# Altium integrated library Micron Memory Parallel NOR Flash.IntLib: 720 symbols (part 28 of 216)
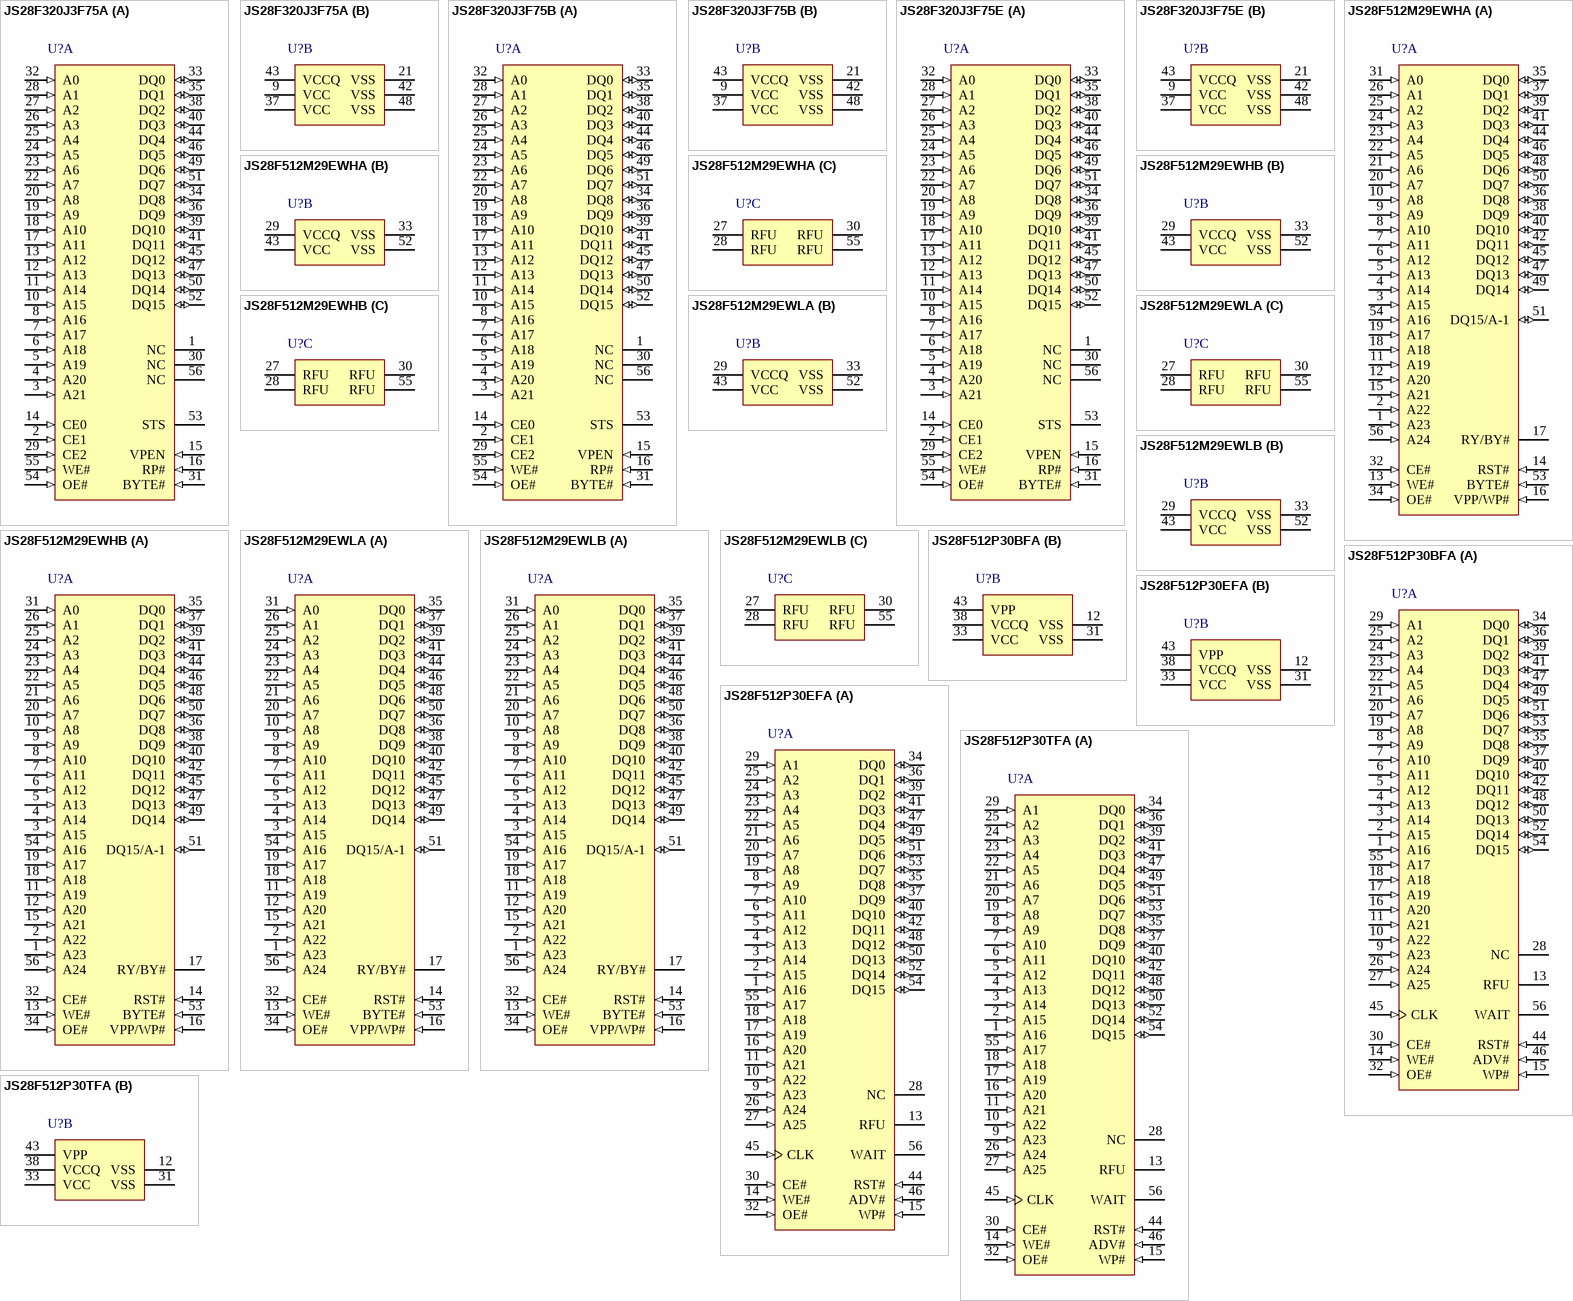
[diagram p86: symbols JS28F320J3F75A to JS28F512P30TFA]

## JS28F320J3F75A
designator U?
32 Mb (x8/x16) Parallel NOR Flash Memory, 75 ns, 2.7 to 3.6 V, 56-pin TSOP (JS), Tray; Part Family: J3; Manufacturer: Micron; PartNumber: JS28F320J3F75A; Density: 32Mb; Op Temp: -40C to +85C; Speed: 75ns; Voltage: 2.7V-3.6V; DatasheetVersion: Rev. 03; PackageVersion: Rev. 12; PackageReference: MICT-JS-56; PackageDescription: 56-Pin TSOP, 18.4 X 14 mm, Pitch 0.5 mm; RoHS: Yes; Width: x8/x16; Mounting Technology: Surface Mount; ComponentLink1Description: Manufacturer URL; ComponentLink1URL: http://www.micron.com/; ComponentLink2Description: Datasheet; ComponentLink2URL: http://www.micron.com/~/media/Documents/Products/Data%20Sheet/NOR%20Flash/Parallel/J3/208032_J3_65_SBC_DS.pdf; ComponentLink3Description: Package Specification; ComponentLink3URL: http://www.micron.com/~/media/Documents/Products/Data%20Sheet/NOR%20Flash/Parallel/P33/320003_P33_65nm_MLC_256MDiscrete_512MStack_DS.pdf
footprint MICT-JS-56_N (SOP, 56-Leads, Body 18.6x14.2mm, Pitch 0.5mm, IPC Medium Density)
part A pins: 1 NC "No Connect: Lead is not internally connected; it may be driven or floated.", 2 CE1 (in) "CHIP ENABLE: Activates the 32-, 64-, 128-Mbit devices’ control logic, input buffers, decoders, and sense amplifiers. When the device is de-selected (see Table 17, "Chip Enable Truth Table for 32-, 64-, 128-Mb" on page 30), (See Datasheet)", 3 A21 (in) "Address Input: Inputs for addresses during read and program operations. Addresses are internally latched during a program cycle: 32-Mbit -- A[21:1] 64-Mbit-- A[22:1] 128-Mbit -- A[23:1]", 4 A20 (in) "Address Input: Inputs for addresses during read and program operations. Addresses are internally latched during a program cycle: 32-Mbit -- A[21:1] 64-Mbit-- A[22:1] 128-Mbit -- A[23:1]", 5 A19 (in) "Address Input: Inputs for addresses during read and program operations. Addresses are internally latched during a program cycle: 32-Mbit -- A[21:1] 64-Mbit-- A[22:1] 128-Mbit -- A[23:1]", 6 A18 (in) "Address Input: Inputs for addresses during read and program operations. Addresses are internally latched during a program cycle: 32-Mbit -- A[21:1] 64-Mbit-- A[22:1] 128-Mbit -- A[23:1]", 7 A17 (in) "Address Input: Inputs for addresses during read and program operations. Addresses are internally latched during a program cycle: 32-Mbit -- A[21:1] 64-Mbit-- A[22:1] 128-Mbit -- A[23:1]", 8 A16 (in) "Address Input: Inputs for addresses during read and program operations. Addresses are internally latched during a program cycle: 32-Mbit -- A[21:1] 64-Mbit-- A[22:1] 128-Mbit -- A[23:1]", 10 A15 (in) "Address Input: Inputs for addresses during read and program operations. Addresses are internally latched during a program cycle: 32-Mbit -- A[21:1] 64-Mbit-- A[22:1] 128-Mbit -- A[23:1]", 11 A14 (in) "Address Input: Inputs for addresses during read and program operations. Addresses are internally latched during a program cycle: 32-Mbit -- A[21:1] 64-Mbit-- A[22:1] 128-Mbit -- A[23:1]", 12 A13 (in) "Address Input: Inputs for addresses during read and program operations. Addresses are internally latched during a program cycle: 32-Mbit -- A[21:1] 64-Mbit-- A[22:1] 128-Mbit -- A[23:1]", 13 A12 (in) "Address Input: Inputs for addresses during read and program operations. Addresses are internally latched during a program cycle: 32-Mbit -- A[21:1] 64-Mbit-- A[22:1] 128-Mbit -- A[23:1]", 14 CE0 (in) "CHIP ENABLE: Activates the 32-, 64-, 128-Mbit devices’ control logic, input buffers, decoders, and sense amplifiers. When the device is de-selected (see Table 17, "Chip Enable Truth Table for 32-, 64-, 128-Mb"on page 30), (See Datasheet)", 15 VPEN (in) "ERASE / PROGRAM / BLOCK LOCK ENABLE: For erasing array blocks, programming data, or configuring lock-bits. With VPEN =< VPENLK, memory contents cannot be altered.", 16 RP# (in) "RESET: RP#-low resets internal automation and puts the device in power-down mode. RP#-high enables normal operation. Exit from reset sets the device to read array mode. When driven low, RP# inhibits write operations which (See Datasheet)", 17 A11 (in) "Address Input: Inputs for addresses during read and program operations. Addresses are internally latched during a program cycle: 32-Mbit -- A[21:1] 64-Mbit-- A[22:1] 128-Mbit -- A[23:1]", 18 A10 (in) "Address Input: Inputs for addresses during read and program operations. Addresses are internally latched during a program cycle: 32-Mbit -- A[21:1] 64-Mbit-- A[22:1] 128-Mbit -- A[23:1]", 19 A9 (in) "Address Input: Inputs for addresses during read and program operations. Addresses are internally latched during a program cycle: 32-Mbit -- A[21:1] 64-Mbit-- A[22:1] 128-Mbit -- A[23:1]", 20 A8 (in) "Address Input: Inputs for addresses during read and program operations. Addresses are internally latched during a program cycle: 32-Mbit -- A[21:1] 64-Mbit-- A[22:1] 128-Mbit -- A[23:1]", 22 A7 (in) "Address Input: Inputs for addresses during read and program operations. Addresses are internally latched during a program cycle: 32-Mbit -- A[21:1] 64-Mbit-- A[22:1] 128-Mbit -- A[23:1]", 23 A6 (in) "Address Input: Inputs for addresses during read and program operations. Addresses are internally latched during a program cycle: 32-Mbit -- A[21:1] 64-Mbit-- A[22:1] 128-Mbit -- A[23:1]", 24 A5 (in) "Address Input: Inputs for addresses during read and program operations. Addresses are internally latched during a program cycle: 32-Mbit -- A[21:1] 64-Mbit-- A[22:1] 128-Mbit -- A[23:1]", 25 A4 (in) "Address Input: Inputs for addresses during read and program operations. Addresses are internally latched during a program cycle: 32-Mbit -- A[21:1] 64-Mbit-- A[22:1] 128-Mbit -- A[23:1]", 26 A3 (in) "Address Input: Inputs for addresses during read and program operations. Addresses are internally latched during a program cycle: 32-Mbit -- A[21:1] 64-Mbit-- A[22:1] 128-Mbit -- A[23:1]", 27 A2 (in) "Address Input: Inputs for addresses during read and program operations. Addresses are internally latched during a program cycle: 32-Mbit -- A[21:1] 64-Mbit-- A[22:1] 128-Mbit -- A[23:1]", 28 A1 (in) "Address Input: Inputs for addresses during read and program operations. Addresses are internally latched during a program cycle: 32-Mbit -- A[21:1] 64-Mbit-- A[22:1] 128-Mbit -- A[23:1]", 29 CE2 (in) "CHIP ENABLE: Activates the 32-, 64-, 128-Mbit devices’ control logic, input buffers, decoders, and sense amplifiers. When the device is de-selected (see Table 17, "Chip Enable Truth Table for 32-, 64-, 128-Mb" on page 30), (See Datasheet)", 30 NC "No Connect: Lead is not internally connected; it may be driven or floated.", 31 BYTE# (in) "BYTE ENABLE: BYTE#-low places the device in x8 mode; data is input or output on D[7:0], while D[15:8] is placed in High-Z. Address A0 selects between the high and low byte. BYTE#-high places the device in x16 mode, and turns (See Datasheet)", 32 A0 (in) "BYTE-SELECT ADDRESS: Selects between high and low byte when the device is in x8 mode. This address is latched during a x8 program cycle. Not used in x16 mode (i.e., the A0 input buffer is turned off when BYTE# is high).", 33 DQ0 (io) "LOW-BYTE DATA BUS: Inputs data during buffer writes and programming, and inputs commands during CUI writes. Output array, CFI, identifier, or status data in the appropriate read mode. Data is internally latched during write (See Datasheet)", 34 DQ8 (io) "HIGH-BYTE DATA BUS: Inputs data during x16 buffer writes and programming operations. Outputs array, CFI, or identifier data in the appropriate read mode; not used for Status Register reads. Data is internally latched during (See Datasheet)", 35 DQ1 (io) "LOW-BYTE DATA BUS: Inputs data during buffer writes and programming, and inputs commands during CUI writes. Output array, CFI, identifier, or status data in the appropriate read mode. Data is internally latched during write (See Datasheet)", 36 DQ9 (io) "HIGH-BYTE DATA BUS: Inputs data during x16 buffer writes and programming operations. Outputs array, CFI, or identifier data in the appropriate read mode; not used for Status Register reads. Data is internally latched during (See Datasheet)", 38 DQ2 (io) "LOW-BYTE DATA BUS: Inputs data during buffer writes and programming, and inputs commands during CUI writes. Output array, CFI, identifier, or status data in the appropriate read mode. Data is internally latched during write (See Datasheet)", 39 DQ10 (io) "HIGH-BYTE DATA BUS: Inputs data during x16 buffer writes and programming operations. Outputs array, CFI, or identifier data in the appropriate read mode; not used for Status Register reads. Data is internally latched during (See Datasheet)", 40 DQ3 (io) "LOW-BYTE DATA BUS: Inputs data during buffer writes and programming, and inputs commands during CUI writes. Output array, CFI, identifier, or status data in the appropriate read mode. Data is internally latched during write (See Datasheet)", 41 DQ11 (io) "HIGH-BYTE DATA BUS: Inputs data during x16 buffer writes and programming operations. Outputs array, CFI, or identifier data in the appropriate read mode; not used for Status Register reads. Data is internally latched during (See Datasheet)", 44 DQ4 (io) "LOW-BYTE DATA BUS: INPUT data during buffer writes and programming, and INPUT commands during CUI writes. OUTPUT array, CFI, identifier, or status data in the appropriate read mode. Data is internally latched during write (See Datasheet)", 45 DQ12 (io) "HIGH-BYTE DATA BUS: Inputs data during x16 buffer writes and programming operations. Outputs array, CFI, or identifier data in the appropriate read mode; not used for Status Register reads. Data is internally latched during (See Datasheet)", 46 DQ5 (io) "LOW-BYTE DATA BUS: Inputs data during buffer writes and programming, and inputs commands during CUI writes. Outputs array, CFI, identifier, or status data in the appropriate read mode. Data is internally latched during write (See Datasheet)", 47 DQ13 (io) "HIGH-BYTE DATA BUS: Inputs data during x16 buffer writes and programming operations. Outputs array, CFI, or identifier data in the appropriate read mode; not used for Status Register reads. Data is internally latched during (See Datasheet)", 49 DQ6 (io) "LOW-BYTE DATA BUS: Inputs data during buffer writes and programming, and inputs commands during CUI writes. Outputs array, CFI, identifier, or status data in the appropriate read mode. Data is internally latched during write (See Datasheet)", 50 DQ14 (io) "HIGH-BYTE DATA BUS: Inputs data during x16 buffer writes and programming operations. Outputs array, CFI, or identifier data in the appropriate read mode; not used for Status Register reads. Data is internally latched during (See Datasheet)", 51 DQ7 (io) "LOW-BYTE DATA BUS: Inputs data during buffer writes and programming, and inputs commands during CUI writes. Outputs array, CFI, identifier, or status data in the appropriate read mode. Data is internally latched during write (See Datasheet)", 52 DQ15 (io) "HIGH-BYTE DATA BUS: Inputs data during x16 buffer writes and programming operations. Outputs array, CFI, or identifier data in the appropriate read mode; not used for Status Register reads. Data is internally latched during (See Datasheet)", 53 STS (hiz) "STATUS: Indicates the status of the internal state machine. When configured in level mode (default), it acts as a RY/BY# signal. When configured in one of its pulse modes, it can pulse to indicate program and/or erase (See Datasheet)", 54 OE# (in) "OUTPUT ENABLE: Activates the device’s outputs through the data buffers during a read cycle. OE# is active low.", 55 WE# (in) "WRITE ENABLE: Controls writes to the CUI, the Write Buffer, and array blocks. WE# is active low. Addresses and data are latched on the rising edge of WE#.", 56 NC "No Connect: Lead is not internally connected; it may be driven or floated."
part B pins: 9 VCC (power) "CORE Power Supply: Core (logic) source voltage. Writes to the flash array are inhibited when VCC =< VLko. Caution: Device operation at invalid Vcc voltages should not be attempted.", 21 VSS (power) "GROUND: Ground reference for device logic voltages. Connect to system ground.", 37 VCC (power) "CORE Power Supply: Core (logic) source voltage. Writes to the flash array are inhibited when VCC =< VLko. Caution: Device operation at invalid Vcc voltages should not be attempted.", 42 VSS (power) "GROUND: Ground reference for device logic voltages. Connect to system ground.", 43 VCCQ (power) "I/O Power Supply: Power supply for Input/Output buffers.This ball can be tied directly to VCC.", 48 VSS (power) "GROUND: Ground reference for device logic voltages. Connect to system ground."

## JS28F320J3F75B
designator U?
32 Mb (x8/x16) Parallel NOR Flash Memory, 75 ns, 2.7 to 3.6 V, 56-pin TSOP (JS), Tape & Reel; Part Family: J3; Manufacturer: Micron; PartNumber: JS28F320J3F75B; Density: 32Mb; Op Temp: -40C to +85C; Speed: 75ns; Voltage: 2.7V-3.6V; DatasheetVersion: Rev. 03; PackageVersion: Rev. 12; PackageReference: MICT-JS-56; PackageDescription: 56-Pin TSOP, 18.4 X 14 mm, Pitch 0.5 mm; RoHS: Yes; Width: x8/x16; Mounting Technology: Surface Mount; ComponentLink1Description: Manufacturer URL; ComponentLink1URL: http://www.micron.com/; ComponentLink2Description: Datasheet; ComponentLink2URL: http://www.micron.com/~/media/Documents/Products/Data%20Sheet/NOR%20Flash/Parallel/J3/208032_J3_65_SBC_DS.pdf; ComponentLink3Description: Package Specification; ComponentLink3URL: http://www.micron.com/~/media/Documents/Products/Data%20Sheet/NOR%20Flash/Parallel/P33/320003_P33_65nm_MLC_256MDiscrete_512MStack_DS.pdf
footprint MICT-JS-56_N (SOP, 56-Leads, Body 18.6x14.2mm, Pitch 0.5mm, IPC Medium Density)
part A pins: 1 NC "No Connect: Lead is not internally connected; it may be driven or floated.", 2 CE1 (in) "CHIP ENABLE: Activates the 32-, 64-, 128-Mbit devices’ control logic, input buffers, decoders, and sense amplifiers. When the device is de-selected (see Table 17, "Chip Enable Truth Table for 32-, 64-, 128-Mb" on page 30), (See Datasheet)", 3 A21 (in) "Address Input: Inputs for addresses during read and program operations. Addresses are internally latched during a program cycle: 32-Mbit -- A[21:1] 64-Mbit-- A[22:1] 128-Mbit -- A[23:1]", 4 A20 (in) "Address Input: Inputs for addresses during read and program operations. Addresses are internally latched during a program cycle: 32-Mbit -- A[21:1] 64-Mbit-- A[22:1] 128-Mbit -- A[23:1]", 5 A19 (in) "Address Input: Inputs for addresses during read and program operations. Addresses are internally latched during a program cycle: 32-Mbit -- A[21:1] 64-Mbit-- A[22:1] 128-Mbit -- A[23:1]", 6 A18 (in) "Address Input: Inputs for addresses during read and program operations. Addresses are internally latched during a program cycle: 32-Mbit -- A[21:1] 64-Mbit-- A[22:1] 128-Mbit -- A[23:1]", 7 A17 (in) "Address Input: Inputs for addresses during read and program operations. Addresses are internally latched during a program cycle: 32-Mbit -- A[21:1] 64-Mbit-- A[22:1] 128-Mbit -- A[23:1]", 8 A16 (in) "Address Input: Inputs for addresses during read and program operations. Addresses are internally latched during a program cycle: 32-Mbit -- A[21:1] 64-Mbit-- A[22:1] 128-Mbit -- A[23:1]", 10 A15 (in) "Address Input: Inputs for addresses during read and program operations. Addresses are internally latched during a program cycle: 32-Mbit -- A[21:1] 64-Mbit-- A[22:1] 128-Mbit -- A[23:1]", 11 A14 (in) "Address Input: Inputs for addresses during read and program operations. Addresses are internally latched during a program cycle: 32-Mbit -- A[21:1] 64-Mbit-- A[22:1] 128-Mbit -- A[23:1]", 12 A13 (in) "Address Input: Inputs for addresses during read and program operations. Addresses are internally latched during a program cycle: 32-Mbit -- A[21:1] 64-Mbit-- A[22:1] 128-Mbit -- A[23:1]", 13 A12 (in) "Address Input: Inputs for addresses during read and program operations. Addresses are internally latched during a program cycle: 32-Mbit -- A[21:1] 64-Mbit-- A[22:1] 128-Mbit -- A[23:1]", 14 CE0 (in) "CHIP ENABLE: Activates the 32-, 64-, 128-Mbit devices’ control logic, input buffers, decoders, and sense amplifiers. When the device is de-selected (see Table 17, "Chip Enable Truth Table for 32-, 64-, 128-Mb"on page 30), (See Datasheet)", 15 VPEN (in) "ERASE / PROGRAM / BLOCK LOCK ENABLE: For erasing array blocks, programming data, or configuring lock-bits. With VPEN =< VPENLK, memory contents cannot be altered.", 16 RP# (in) "RESET: RP#-low resets internal automation and puts the device in power-down mode. RP#-high enables normal operation. Exit from reset sets the device to read array mode. When driven low, RP# inhibits write operations which (See Datasheet)", 17 A11 (in) "Address Input: Inputs for addresses during read and program operations. Addresses are internally latched during a program cycle: 32-Mbit -- A[21:1] 64-Mbit-- A[22:1] 128-Mbit -- A[23:1]", 18 A10 (in) "Address Input: Inputs for addresses during read and program operations. Addresses are internally latched during a program cycle: 32-Mbit -- A[21:1] 64-Mbit-- A[22:1] 128-Mbit -- A[23:1]", 19 A9 (in) "Address Input: Inputs for addresses during read and program operations. Addresses are internally latched during a program cycle: 32-Mbit -- A[21:1] 64-Mbit-- A[22:1] 128-Mbit -- A[23:1]", 20 A8 (in) "Address Input: Inputs for addresses during read and program operations. Addresses are internally latched during a program cycle: 32-Mbit -- A[21:1] 64-Mbit-- A[22:1] 128-Mbit -- A[23:1]", 22 A7 (in) "Address Input: Inputs for addresses during read and program operations. Addresses are internally latched during a program cycle: 32-Mbit -- A[21:1] 64-Mbit-- A[22:1] 128-Mbit -- A[23:1]", 23 A6 (in) "Address Input: Inputs for addresses during read and program operations. Addresses are internally latched during a program cycle: 32-Mbit -- A[21:1] 64-Mbit-- A[22:1] 128-Mbit -- A[23:1]", 24 A5 (in) "Address Input: Inputs for addresses during read and program operations. Addresses are internally latched during a program cycle: 32-Mbit -- A[21:1] 64-Mbit-- A[22:1] 128-Mbit -- A[23:1]", 25 A4 (in) "Address Input: Inputs for addresses during read and program operations. Addresses are internally latched during a program cycle: 32-Mbit -- A[21:1] 64-Mbit-- A[22:1] 128-Mbit -- A[23:1]", 26 A3 (in) "Address Input: Inputs for addresses during read and program operations. Addresses are internally latched during a program cycle: 32-Mbit -- A[21:1] 64-Mbit-- A[22:1] 128-Mbit -- A[23:1]", 27 A2 (in) "Address Input: Inputs for addresses during read and program operations. Addresses are internally latched during a program cycle: 32-Mbit -- A[21:1] 64-Mbit-- A[22:1] 128-Mbit -- A[23:1]", 28 A1 (in) "Address Input: Inputs for addresses during read and program operations. Addresses are internally latched during a program cycle: 32-Mbit -- A[21:1] 64-Mbit-- A[22:1] 128-Mbit -- A[23:1]", 29 CE2 (in) "CHIP ENABLE: Activates the 32-, 64-, 128-Mbit devices’ control logic, input buffers, decoders, and sense amplifiers. When the device is de-selected (see Table 17, "Chip Enable Truth Table for 32-, 64-, 128-Mb" on page 30), (See Datasheet)", 30 NC "No Connect: Lead is not internally connected; it may be driven or floated.", 31 BYTE# (in) "BYTE ENABLE: BYTE#-low places the device in x8 mode; data is input or output on D[7:0], while D[15:8] is placed in High-Z. Address A0 selects between the high and low byte. BYTE#-high places the device in x16 mode, and turns (See Datasheet)", 32 A0 (in) "BYTE-SELECT ADDRESS: Selects between high and low byte when the device is in x8 mode. This address is latched during a x8 program cycle. Not used in x16 mode (i.e., the A0 input buffer is turned off when BYTE# is high).", 33 DQ0 (io) "LOW-BYTE DATA BUS: Inputs data during buffer writes and programming, and inputs commands during CUI writes. Output array, CFI, identifier, or status data in the appropriate read mode. Data is internally latched during write (See Datasheet)", 34 DQ8 (io) "HIGH-BYTE DATA BUS: Inputs data during x16 buffer writes and programming operations. Outputs array, CFI, or identifier data in the appropriate read mode; not used for Status Register reads. Data is internally latched during (See Datasheet)", 35 DQ1 (io) "LOW-BYTE DATA BUS: Inputs data during buffer writes and programming, and inputs commands during CUI writes. Output array, CFI, identifier, or status data in the appropriate read mode. Data is internally latched during write (See Datasheet)", 36 DQ9 (io) "HIGH-BYTE DATA BUS: Inputs data during x16 buffer writes and programming operations. Outputs array, CFI, or identifier data in the appropriate read mode; not used for Status Register reads. Data is internally latched during (See Datasheet)", 38 DQ2 (io) "LOW-BYTE DATA BUS: Inputs data during buffer writes and programming, and inputs commands during CUI writes. Output array, CFI, identifier, or status data in the appropriate read mode. Data is internally latched during write (See Datasheet)", 39 DQ10 (io) "HIGH-BYTE DATA BUS: Inputs data during x16 buffer writes and programming operations. Outputs array, CFI, or identifier data in the appropriate read mode; not used for Status Register reads. Data is internally latched during (See Datasheet)", 40 DQ3 (io) "LOW-BYTE DATA BUS: Inputs data during buffer writes and programming, and inputs commands during CUI writes. Output array, CFI, identifier, or status data in the appropriate read mode. Data is internally latched during write (See Datasheet)", 41 DQ11 (io) "HIGH-BYTE DATA BUS: Inputs data during x16 buffer writes and programming operations. Outputs array, CFI, or identifier data in the appropriate read mode; not used for Status Register reads. Data is internally latched during (See Datasheet)", 44 DQ4 (io) "LOW-BYTE DATA BUS: INPUT data during buffer writes and programming, and INPUT commands during CUI writes. OUTPUT array, CFI, identifier, or status data in the appropriate read mode. Data is internally latched during write (See Datasheet)", 45 DQ12 (io) "HIGH-BYTE DATA BUS: Inputs data during x16 buffer writes and programming operations. Outputs array, CFI, or identifier data in the appropriate read mode; not used for Status Register reads. Data is internally latched during (See Datasheet)", 46 DQ5 (io) "LOW-BYTE DATA BUS: Inputs data during buffer writes and programming, and inputs commands during CUI writes. Outputs array, CFI, identifier, or status data in the appropriate read mode. Data is internally latched during write (See Datasheet)", 47 DQ13 (io) "HIGH-BYTE DATA BUS: Inputs data during x16 buffer writes and programming operations. Outputs array, CFI, or identifier data in the appropriate read mode; not used for Status Register reads. Data is internally latched during (See Datasheet)", 49 DQ6 (io) "LOW-BYTE DATA BUS: Inputs data during buffer writes and programming, and inputs commands during CUI writes. Outputs array, CFI, identifier, or status data in the appropriate read mode. Data is internally latched during write (See Datasheet)", 50 DQ14 (io) "HIGH-BYTE DATA BUS: Inputs data during x16 buffer writes and programming operations. Outputs array, CFI, or identifier data in the appropriate read mode; not used for Status Register reads. Data is internally latched during (See Datasheet)", 51 DQ7 (io) "LOW-BYTE DATA BUS: Inputs data during buffer writes and programming, and inputs commands during CUI writes. Outputs array, CFI, identifier, or status data in the appropriate read mode. Data is internally latched during write (See Datasheet)", 52 DQ15 (io) "HIGH-BYTE DATA BUS: Inputs data during x16 buffer writes and programming operations. Outputs array, CFI, or identifier data in the appropriate read mode; not used for Status Register reads. Data is internally latched during (See Datasheet)", 53 STS (hiz) "STATUS: Indicates the status of the internal state machine. When configured in level mode (default), it acts as a RY/BY# signal. When configured in one of its pulse modes, it can pulse to indicate program and/or erase (See Datasheet)", 54 OE# (in) "OUTPUT ENABLE: Activates the device’s outputs through the data buffers during a read cycle. OE# is active low.", 55 WE# (in) "WRITE ENABLE: Controls writes to the CUI, the Write Buffer, and array blocks. WE# is active low. Addresses and data are latched on the rising edge of WE#.", 56 NC "No Connect: Lead is not internally connected; it may be driven or floated."
part B pins: 9 VCC (power) "CORE Power Supply: Core (logic) source voltage. Writes to the flash array are inhibited when VCC =< VLko. Caution: Device operation at invalid Vcc voltages should not be attempted.", 21 VSS (power) "GROUND: Ground reference for device logic voltages. Connect to system ground.", 37 VCC (power) "CORE Power Supply: Core (logic) source voltage. Writes to the flash array are inhibited when VCC =< VLko. Caution: Device operation at invalid Vcc voltages should not be attempted.", 42 VSS (power) "GROUND: Ground reference for device logic voltages. Connect to system ground.", 43 VCCQ (power) "I/O Power Supply: Power supply for Input/Output buffers.This ball can be tied directly to VCC.", 48 VSS (power) "GROUND: Ground reference for device logic voltages. Connect to system ground."

## JS28F320J3F75E
designator U?
32 Mb (x8/x16) Parallel NOR Flash Memory, 75 ns, 2.7 to 3.6 V, 56-pin TSOP (JS), Tray; Part Family: J3; Manufacturer: Micron; PartNumber: JS28F320J3F75E; Density: 32Mb; Op Temp: -40C to +85C; Speed: 75ns; Voltage: 2.7V-3.6V; DatasheetVersion: Rev. 03; PackageVersion: Rev. 12; PackageReference: MICT-JS-56; PackageDescription: 56-Pin TSOP, 18.4 X 14 mm, Pitch 0.5 mm; RoHS: Yes; Width: x8/x16; Mounting Technology: Surface Mount; ComponentLink1Description: Manufacturer URL; ComponentLink1URL: http://www.micron.com/; ComponentLink2Description: Datasheet; ComponentLink2URL: http://www.micron.com/~/media/Documents/Products/Data%20Sheet/NOR%20Flash/Parallel/J3/208032_J3_65_SBC_DS.pdf; ComponentLink3Description: Package Specification; ComponentLink3URL: http://www.micron.com/~/media/Documents/Products/Data%20Sheet/NOR%20Flash/Parallel/P33/320003_P33_65nm_MLC_256MDiscrete_512MStack_DS.pdf
footprint MICT-JS-56_N (SOP, 56-Leads, Body 18.6x14.2mm, Pitch 0.5mm, IPC Medium Density)
part A pins: 1 NC "No Connect: Lead is not internally connected; it may be driven or floated.", 2 CE1 (in) "CHIP ENABLE: Activates the 32-, 64-, 128-Mbit devices’ control logic, input buffers, decoders, and sense amplifiers. When the device is de-selected (see Table 17, "Chip Enable Truth Table for 32-, 64-, 128-Mb" on page 30), (See Datasheet)", 3 A21 (in) "Address Input: Inputs for addresses during read and program operations. Addresses are internally latched during a program cycle: 32-Mbit -- A[21:1] 64-Mbit-- A[22:1] 128-Mbit -- A[23:1]", 4 A20 (in) "Address Input: Inputs for addresses during read and program operations. Addresses are internally latched during a program cycle: 32-Mbit -- A[21:1] 64-Mbit-- A[22:1] 128-Mbit -- A[23:1]", 5 A19 (in) "Address Input: Inputs for addresses during read and program operations. Addresses are internally latched during a program cycle: 32-Mbit -- A[21:1] 64-Mbit-- A[22:1] 128-Mbit -- A[23:1]", 6 A18 (in) "Address Input: Inputs for addresses during read and program operations. Addresses are internally latched during a program cycle: 32-Mbit -- A[21:1] 64-Mbit-- A[22:1] 128-Mbit -- A[23:1]", 7 A17 (in) "Address Input: Inputs for addresses during read and program operations. Addresses are internally latched during a program cycle: 32-Mbit -- A[21:1] 64-Mbit-- A[22:1] 128-Mbit -- A[23:1]", 8 A16 (in) "Address Input: Inputs for addresses during read and program operations. Addresses are internally latched during a program cycle: 32-Mbit -- A[21:1] 64-Mbit-- A[22:1] 128-Mbit -- A[23:1]", 10 A15 (in) "Address Input: Inputs for addresses during read and program operations. Addresses are internally latched during a program cycle: 32-Mbit -- A[21:1] 64-Mbit-- A[22:1] 128-Mbit -- A[23:1]", 11 A14 (in) "Address Input: Inputs for addresses during read and program operations. Addresses are internally latched during a program cycle: 32-Mbit -- A[21:1] 64-Mbit-- A[22:1] 128-Mbit -- A[23:1]", 12 A13 (in) "Address Input: Inputs for addresses during read and program operations. Addresses are internally latched during a program cycle: 32-Mbit -- A[21:1] 64-Mbit-- A[22:1] 128-Mbit -- A[23:1]", 13 A12 (in) "Address Input: Inputs for addresses during read and program operations. Addresses are internally latched during a program cycle: 32-Mbit -- A[21:1] 64-Mbit-- A[22:1] 128-Mbit -- A[23:1]", 14 CE0 (in) "CHIP ENABLE: Activates the 32-, 64-, 128-Mbit devices’ control logic, input buffers, decoders, and sense amplifiers. When the device is de-selected (see Table 17, "Chip Enable Truth Table for 32-, 64-, 128-Mb"on page 30), (See Datasheet)", 15 VPEN (in) "ERASE / PROGRAM / BLOCK LOCK ENABLE: For erasing array blocks, programming data, or configuring lock-bits. With VPEN =< VPENLK, memory contents cannot be altered.", 16 RP# (in) "RESET: RP#-low resets internal automation and puts the device in power-down mode. RP#-high enables normal operation. Exit from reset sets the device to read array mode. When driven low, RP# inhibits write operations which (See Datasheet)", 17 A11 (in) "Address Input: Inputs for addresses during read and program operations. Addresses are internally latched during a program cycle: 32-Mbit -- A[21:1] 64-Mbit-- A[22:1] 128-Mbit -- A[23:1]", 18 A10 (in) "Address Input: Inputs for addresses during read and program operations. Addresses are internally latched during a program cycle: 32-Mbit -- A[21:1] 64-Mbit-- A[22:1] 128-Mbit -- A[23:1]", 19 A9 (in) "Address Input: Inputs for addresses during read and program operations. Addresses are internally latched during a program cycle: 32-Mbit -- A[21:1] 64-Mbit-- A[22:1] 128-Mbit -- A[23:1]", 20 A8 (in) "Address Input: Inputs for addresses during read and program operations. Addresses are internally latched during a program cycle: 32-Mbit -- A[21:1] 64-Mbit-- A[22:1] 128-Mbit -- A[23:1]", 22 A7 (in) "Address Input: Inputs for addresses during read and program operations. Addresses are internally latched during a program cycle: 32-Mbit -- A[21:1] 64-Mbit-- A[22:1] 128-Mbit -- A[23:1]", 23 A6 (in) "Address Input: Inputs for addresses during read and program operations. Addresses are internally latched during a program cycle: 32-Mbit -- A[21:1] 64-Mbit-- A[22:1] 128-Mbit -- A[23:1]", 24 A5 (in) "Address Input: Inputs for addresses during read and program operations. Addresses are internally latched during a program cycle: 32-Mbit -- A[21:1] 64-Mbit-- A[22:1] 128-Mbit -- A[23:1]", 25 A4 (in) "Address Input: Inputs for addresses during read and program operations. Addresses are internally latched during a program cycle: 32-Mbit -- A[21:1] 64-Mbit-- A[22:1] 128-Mbit -- A[23:1]", 26 A3 (in) "Address Input: Inputs for addresses during read and program operations. Addresses are internally latched during a program cycle: 32-Mbit -- A[21:1] 64-Mbit-- A[22:1] 128-Mbit -- A[23:1]", 27 A2 (in) "Address Input: Inputs for addresses during read and program operations. Addresses are internally latched during a program cycle: 32-Mbit -- A[21:1] 64-Mbit-- A[22:1] 128-Mbit -- A[23:1]", 28 A1 (in) "Address Input: Inputs for addresses during read and program operations. Addresses are internally latched during a program cycle: 32-Mbit -- A[21:1] 64-Mbit-- A[22:1] 128-Mbit -- A[23:1]", 29 CE2 (in) "CHIP ENABLE: Activates the 32-, 64-, 128-Mbit devices’ control logic, input buffers, decoders, and sense amplifiers. When the device is de-selected (see Table 17, "Chip Enable Truth Table for 32-, 64-, 128-Mb" on page 30), (See Datasheet)", 30 NC "No Connect: Lead is not internally connected; it may be driven or floated.", 31 BYTE# (in) "BYTE ENABLE: BYTE#-low places the device in x8 mode; data is input or output on D[7:0], while D[15:8] is placed in High-Z. Address A0 selects between the high and low byte. BYTE#-high places the device in x16 mode, and turns (See Datasheet)", 32 A0 (in) "BYTE-SELECT ADDRESS: Selects between high and low byte when the device is in x8 mode. This address is latched during a x8 program cycle. Not used in x16 mode (i.e., the A0 input buffer is turned off when BYTE# is high).", 33 DQ0 (io) "LOW-BYTE DATA BUS: Inputs data during buffer writes and programming, and inputs commands during CUI writes. Output array, CFI, identifier, or status data in the appropriate read mode. Data is internally latched during write (See Datasheet)", 34 DQ8 (io) "HIGH-BYTE DATA BUS: Inputs data during x16 buffer writes and programming operations. Outputs array, CFI, or identifier data in the appropriate read mode; not used for Status Register reads. Data is internally latched during (See Datasheet)", 35 DQ1 (io) "LOW-BYTE DATA BUS: Inputs data during buffer writes and programming, and inputs commands during CUI writes. Output array, CFI, identifier, or status data in the appropriate read mode. Data is internally latched during write (See Datasheet)", 36 DQ9 (io) "HIGH-BYTE DATA BUS: Inputs data during x16 buffer writes and programming operations. Outputs array, CFI, or identifier data in the appropriate read mode; not used for Status Register reads. Data is internally latched during (See Datasheet)", 38 DQ2 (io) "LOW-BYTE DATA BUS: Inputs data during buffer writes and programming, and inputs commands during CUI writes. Output array, CFI, identifier, or status data in the appropriate read mode. Data is internally latched during write (See Datasheet)", 39 DQ10 (io) "HIGH-BYTE DATA BUS: Inputs data during x16 buffer writes and programming operations. Outputs array, CFI, or identifier data in the appropriate read mode; not used for Status Register reads. Data is internally latched during (See Datasheet)", 40 DQ3 (io) "LOW-BYTE DATA BUS: Inputs data during buffer writes and programming, and inputs commands during CUI writes. Output array, CFI, identifier, or status data in the appropriate read mode. Data is internally latched during write (See Datasheet)", 41 DQ11 (io) "HIGH-BYTE DATA BUS: Inputs data during x16 buffer writes and programming operations. Outputs array, CFI, or identifier data in the appropriate read mode; not used for Status Register reads. Data is internally latched during (See Datasheet)", 44 DQ4 (io) "LOW-BYTE DATA BUS: INPUT data during buffer writes and programming, and INPUT commands during CUI writes. OUTPUT array, CFI, identifier, or status data in the appropriate read mode. Data is internally latched during write (See Datasheet)", 45 DQ12 (io) "HIGH-BYTE DATA BUS: Inputs data during x16 buffer writes and programming operations. Outputs array, CFI, or identifier data in the appropriate read mode; not used for Status Register reads. Data is internally latched during (See Datasheet)", 46 DQ5 (io) "LOW-BYTE DATA BUS: Inputs data during buffer writes and programming, and inputs commands during CUI writes. Outputs array, CFI, identifier, or status data in the appropriate read mode. Data is internally latched during write (See Datasheet)", 47 DQ13 (io) "HIGH-BYTE DATA BUS: Inputs data during x16 buffer writes and programming operations. Outputs array, CFI, or identifier data in the appropriate read mode; not used for Status Register reads. Data is internally latched during (See Datasheet)", 49 DQ6 (io) "LOW-BYTE DATA BUS: Inputs data during buffer writes and programming, and inputs commands during CUI writes. Outputs array, CFI, identifier, or status data in the appropriate read mode. Data is internally latched during write (See Datasheet)", 50 DQ14 (io) "HIGH-BYTE DATA BUS: Inputs data during x16 buffer writes and programming operations. Outputs array, CFI, or identifier data in the appropriate read mode; not used for Status Register reads. Data is internally latched during (See Datasheet)", 51 DQ7 (io) "LOW-BYTE DATA BUS: Inputs data during buffer writes and programming, and inputs commands during CUI writes. Outputs array, CFI, identifier, or status data in the appropriate read mode. Data is internally latched during write (See Datasheet)", 52 DQ15 (io) "HIGH-BYTE DATA BUS: Inputs data during x16 buffer writes and programming operations. Outputs array, CFI, or identifier data in the appropriate read mode; not used for Status Register reads. Data is internally latched during (See Datasheet)", 53 STS (hiz) "STATUS: Indicates the status of the internal state machine. When configured in level mode (default), it acts as a RY/BY# signal. When configured in one of its pulse modes, it can pulse to indicate program and/or erase (See Datasheet)", 54 OE# (in) "OUTPUT ENABLE: Activates the device’s outputs through the data buffers during a read cycle. OE# is active low.", 55 WE# (in) "WRITE ENABLE: Controls writes to the CUI, the Write Buffer, and array blocks. WE# is active low. Addresses and data are latched on the rising edge of WE#.", 56 NC "No Connect: Lead is not internally connected; it may be driven or floated."
part B pins: 9 VCC (power) "CORE Power Supply: Core (logic) source voltage. Writes to the flash array are inhibited when VCC =< VLko. Caution: Device operation at invalid Vcc voltages should not be attempted.", 21 VSS (power) "GROUND: Ground reference for device logic voltages. Connect to system ground.", 37 VCC (power) "CORE Power Supply: Core (logic) source voltage. Writes to the flash array are inhibited when VCC =< VLko. Caution: Device operation at invalid Vcc voltages should not be attempted.", 42 VSS (power) "GROUND: Ground reference for device logic voltages. Connect to system ground.", 43 VCCQ (power) "I/O Power Supply: Power supply for Input/Output buffers.This ball can be tied directly to VCC.", 48 VSS (power) "GROUND: Ground reference for device logic voltages. Connect to system ground."

## JS28F512M29EWHA
designator U?
512 Mb (x8/x16) Parallel NOR Flash Memory, 110 ns, 2.7 to 3.6 V, 56-pin TSOP (JS), Tray; Part Family: M29EW; Manufacturer: Micron; PartNumber: JS28F512M29EWHA; Density: 512Mb; Op Temp: -40C to +85C; Speed: 110ns; Voltage: 2.7V-3.6V; DatasheetVersion: Rev. B; PackageVersion: Rev. 12; PackageReference: MICT-JS-56; PackageDescription: 56-Pin TSOP, 18.4 X 14 mm, Pitch 0.5 mm; RoHS: Yes; Width: x8/x16; Mounting Technology: Surface Mount; ComponentLink1Description: Manufacturer URL; ComponentLink1URL: http://www.micron.com/; ComponentLink2Description: Datasheet; ComponentLink2URL: http://www.micron.com/~/media/Documents/Products/Data%20Sheet/NOR%20Flash/Parallel/M29EW/m29ew_256mb_2gb.pdf; ComponentLink3Description: Package Specification; ComponentLink3URL: http://www.micron.com/~/media/Documents/Products/Data%20Sheet/NOR%20Flash/Parallel/P33/320003_P33_65nm_MLC_256MDiscrete_512MStack_DS.pdf
footprint MICT-JS-56_N (SOP, 56-Leads, Body 18.6x14.2mm, Pitch 0.5mm, IPC Medium Density)
part A pins: 1 A23 (in) "Address: Selects the cells in the array to access during READ operations. During WRITE operations, they control the commands sent to the command interface of the program/erase controller.", 2 A22 (in) "Address: Selects the cells in the array to access during READ operations. During WRITE operations, they control the commands sent to the command interface of the program/erase controller.", 3 A15 (in) "Address: Selects the cells in the array to access during READ operations. During WRITE operations, they control the commands sent to the command interface of the program/erase controller.", 4 A14 (in) "Address: Selects the cells in the array to access during READ operations. During WRITE operations, they control the commands sent to the command interface of the program/erase controller.", 5 A13 (in) "Address: Selects the cells in the array to access during READ operations. During WRITE operations, they control the commands sent to the command interface of the program/erase controller.", 6 A12 (in) "Address: Selects the cells in the array to access during READ operations. During WRITE operations, they control the commands sent to the command interface of the program/erase controller.", 7 A11 (in) "Address: Selects the cells in the array to access during READ operations. During WRITE operations, they control the commands sent to the command interface of the program/erase controller.", 8 A10 (in) "Address: Selects the cells in the array to access during READ operations. During WRITE operations, they control the commands sent to the command interface of the program/erase controller.", 9 A9 (in) "Address: Selects the cells in the array to access during READ operations. During WRITE operations, they control the commands sent to the command interface of the program/erase controller.", 10 A8 (in) "Address: Selects the cells in the array to access during READ operations. During WRITE operations, they control the commands sent to the command interface of the program/erase controller.", 11 A19 (in) "Address: Selects the cells in the array to access during READ operations. During WRITE operations, they control the commands sent to the command interface of the program/erase controller.", 12 A20 (in) "Address: Selects the cells in the array to access during READ operations. During WRITE operations, they control the commands sent to the command interface of the program/erase controller.", 13 WE# (in) "Write enable: Controls the bus WRITE operation of the command interface.", 14 RST# (in) "Reset: Applies a hardware reset to the device, which is achieved by holding RST# LOW for at least tPLPX. After RST# goes HIGH, the device is ready for READ and WRITE operations (after tPHEL or tRHEL, whichever occurs last). (See Datasheet)", 15 A21 (in) "Address: Selects the cells in the array to access during READ operations. During WRITE operations, they control the commands sent to the command interface of the program/erase controller.", 16 VPP/WP# (in) "VPP/Write Protect: Provides WRITE PROTECT function and VPPH function. These functions protect the lowest or highest block and enable the device to enter unlock bypass mode, respectively. (Refer to Hardware Protection and (See Datasheet)", 17 RY/BY# (hiz) "Ready busy: Open-drain output that can be used to identify when the device is performing a PROGRAM or ERASE operation. During PROGRAM or ERASE operations, RY/BY# is LOW, and is High-Z during read mode, auto select mode, and (See Datasheet)", 18 A18 (in) "Address: Selects the cells in the array to access during READ operations. During WRITE operations, they control the commands sent to the command interface of the program/erase controller.", 19 A17 (in) "Address: Selects the cells in the array to access during READ operations. During WRITE operations, they control the commands sent to the command interface of the program/erase controller.", 20 A7 (in) "Address: Selects the cells in the array to access during READ operations. During WRITE operations, they control the commands sent to the command interface of the program/erase controller.", 21 A6 (in) "Address: Selects the cells in the array to access during READ operations. During WRITE operations, they control the commands sent to the command interface of the program/erase controller.", 22 A5 (in) "Address: Selects the cells in the array to access during READ operations. During WRITE operations, they control the commands sent to the command interface of the program/erase controller.", 23 A4 (in) "Address: Selects the cells in the array to access during READ operations. During WRITE operations, they control the commands sent to the command interface of the program/erase controller.", 24 A3 (in) "Address: Selects the cells in the array to access during READ operations. During WRITE operations, they control the commands sent to the command interface of the program/erase controller.", 25 A2 (in) "Address: Selects the cells in the array to access during READ operations. During WRITE operations, they control the commands sent to the command interface of the program/erase controller.", 26 A1 (in) "Address: Selects the cells in the array to access during READ operations. During WRITE operations, they control the commands sent to the command interface of the program/erase controller.", 31 A0 (in) "Address: Selects the cells in the array to access during READ operations. During WRITE operations, they control the commands sent to the command interface of the program/erase controller.", 32 CE# (in) "Chip enable: Activates the device, enabling READ and WRITE operations to be performed. When CE# is HIGH, the device goes to standby and data outputs are at HIGH-Z.", 34 OE# (in) "Output enable: Controls the bus READ operation.", 35 DQ0 (io) "Data I/O: Output the data stored at the selected address during a READ operation. During WRITE operations, they represent the commands sent to the command interface of the internal state machine.", 36 DQ8 (io) "Data I/O: Output the data stored at the selected address during a READ operation when BYTE# is HIGH. When BYTE# is LOW, these pins are not used and are High-Z. During WRITE operations, these bits are not used. When reading (See Datasheet)", 37 DQ1 (io) "Data I/O: Output the data stored at the selected address during a READ operation. During WRITE operations, they represent the commands sent to the command interface of the internal state machine.", 38 DQ9 (io) "Data I/O: Output the data stored at the selected address during a READ operation when BYTE# is HIGH. When BYTE# is LOW, these pins are not used and are High-Z. During WRITE operations, these bits are not used. When reading (See Datasheet)", 39 DQ2 (io) "Data I/O: Output the data stored at the selected address during a READ operation. During WRITE operations, they represent the commands sent to the command interface of the internal state machine.", 40 DQ10 (io) "Data I/O: Output the data stored at the selected address during a READ operation when BYTE# is HIGH. When BYTE# is LOW, these pins are not used and are High-Z. During WRITE operations, these bits are not used. When reading (See Datasheet)", 41 DQ3 (io) "Data I/O: Output the data stored at the selected address during a READ operation. During WRITE operations, they represent the commands sent to the command interface of the internal state machine.", 42 DQ11 (io) "Data I/O: Output the data stored at the selected address during a READ operation when BYTE# is HIGH. When BYTE# is LOW, these pins are not used and are High-Z. During WRITE operations, these bits are not used. When reading (See Datasheet)", 44 DQ4 (io) "Data I/O: Output the data stored at the selected address during a READ operation. During WRITE operations, they represent the commands sent to the command interface of the internal state machine.", 45 DQ12 (io) "Data I/O: Output the data stored at the selected address during a READ operation when BYTE# is HIGH. When BYTE# is LOW, these pins are not used and are High-Z. During WRITE operations, these bits are not used. When reading (See Datasheet)", 46 DQ5 (io) "Data I/O: Output the data stored at the selected address during a READ operation. During WRITE operations, they represent the commands sent to the command interface of the internal state machine.", 47 DQ13 (io) "Data I/O: Output the data stored at the selected address during a READ operation when BYTE# is HIGH. When BYTE# is LOW, these pins are not used and are High-Z. During WRITE operations, these bits are not used. When reading (See Datasheet)", 48 DQ6 (io) "Data I/O: Data I/O: Output the data stored at the selected address during a READ operation. During WRITE operations, they represent the commands sent to the command interface of the internal state machine.the data stored at (See Datasheet)", 49 DQ14 (io) "Data I/O: Output the data stored at the selected address during a READ operation when BYTE# is HIGH. When BYTE# is LOW, these pins are not used and are High-Z. During WRITE operations, these bits are not used. When reading (See Datasheet)", 50 DQ7 (io) "Data I/O: Output the data stored at the selected address during a READ operation. During WRITE operations, they represent the commands sent to the command interface of the internal state machine.", 51 DQ15/A-1 (io) "Data I/O or address input: When the device operates in x16 bus mode, this pin behaves as data I/O, together with DQ[14:8]. When the device operates in x8 bus mode, this pin behaves as the least significant bit of the address.(See Datasheet)", 53 BYTE# (in) "Byte/word organization select: Switches between x8 and x16 bus modes. When BYTE# is LOW, the device is in x8 mode; when HIGH, the device is in x16 mode.", 54 A16 (in) "Address: Selects the cells in the array to access during READ operations. During WRITE operations, they control the commands sent to the command interface of the program/erase controller.", 56 A24 (in) "Address: Selects the cells in the array to access during READ operations. During WRITE operations, they control the commands sent to the command interface of the program/erase controller."
part B pins: 29 VCCQ (power) "I/O supply voltage: Provides the power supply to the I/O pins and enables all outputs to be powered independently from VCC.", 33 VSS (power) "Ground: All VSS pins must be connected to the system ground.", 43 VCC (power) "Supply voltage: Provides the power supply for READ, PROGRAM, and ERASE operations. The command interface is disabled when VCC <= VLKO. This prevents WRITE operations from accidentally damaging the data during power-up, (See Datasheet)", 52 VSS (power) "Ground: All VSS pins must be connected to the system ground."
part C pins: 27 RFU "Reserved for future use: RFUs should be not connected.", 28 RFU "Reserved for future use: RFUs should be not connected.", 30 RFU "Reserved for future use: RFUs should be not connected.", 55 RFU "Reserved for future use: RFUs should be not connected."